# Altium schematic symbol library MULTIPART_B.SchLib: 1 symbol
Pins are listed as number, name and electrical type; pins without a type are passive.

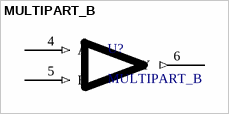
[diagram p0: symbol MULTIPART_B]

## MULTIPART_B
designator U?
Multi-part symbol B
pins: 4 A (in), 5 B (in), 6 Y (out)